# Altium integrated library TI Interface LVDS M-LVDS ECL CML.IntLib: 251 symbols (part 2 of 10)
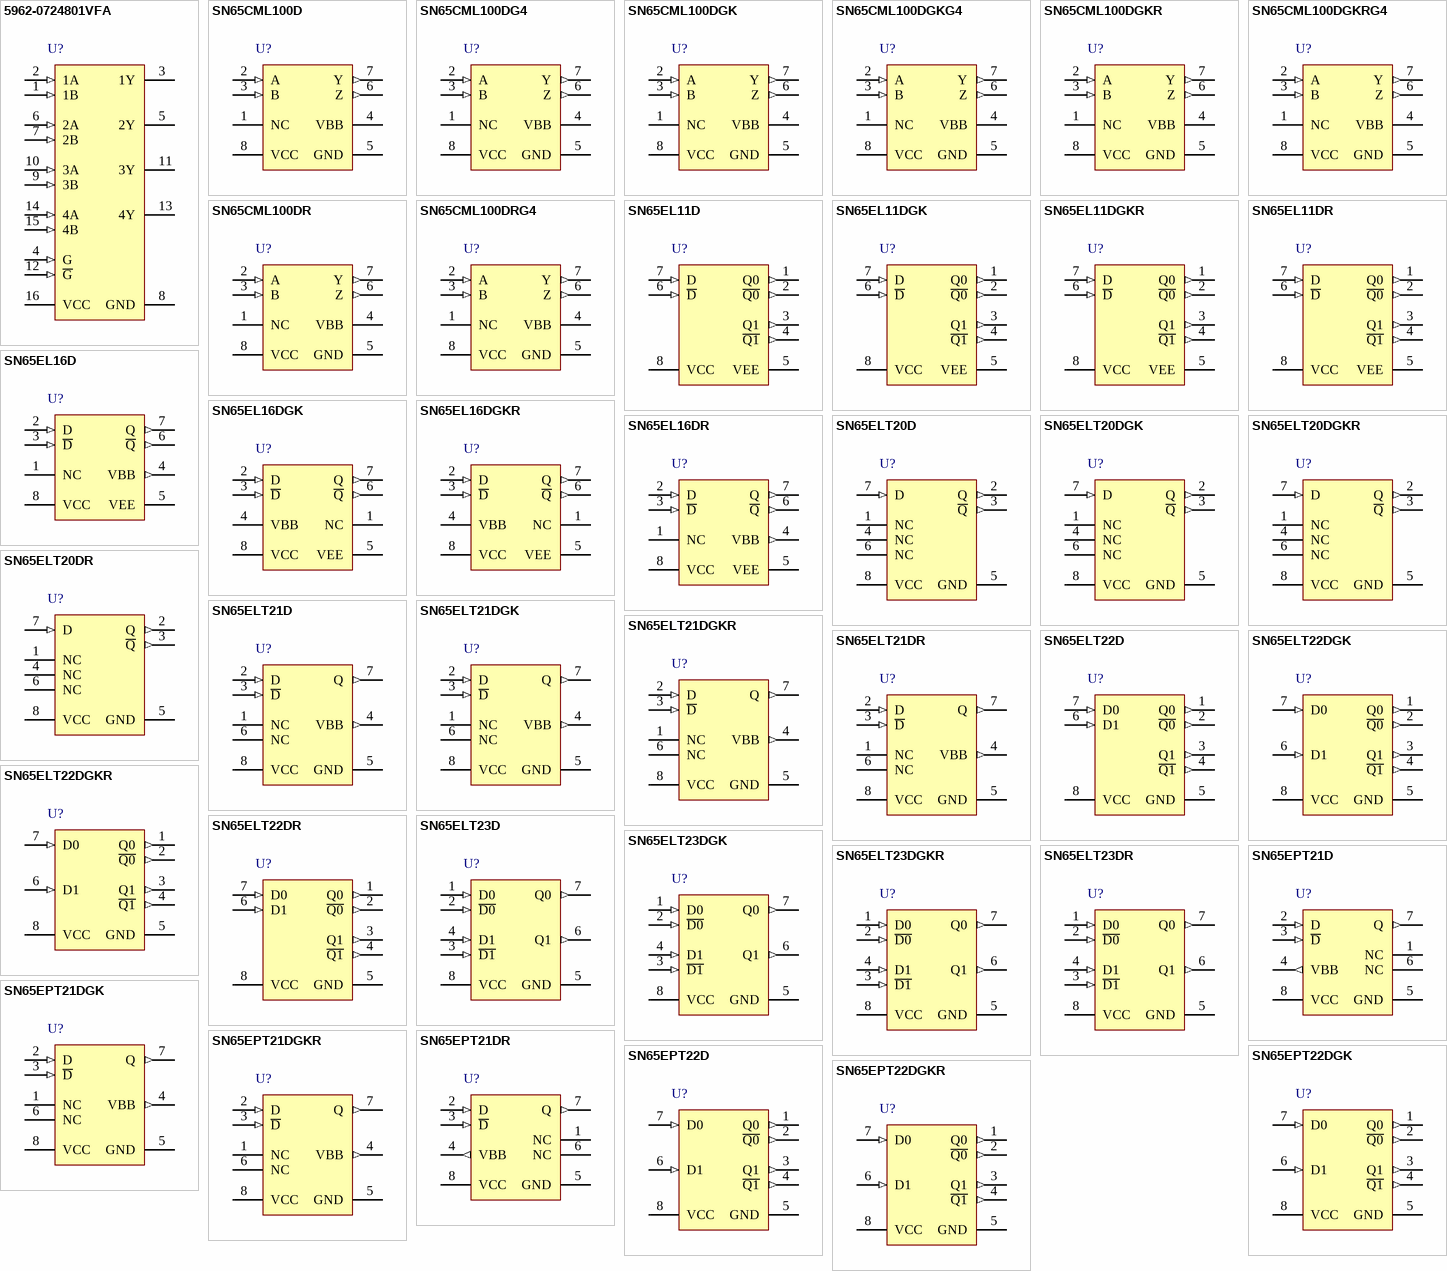
[diagram p10: symbols 5962-0724801VFA to SN65EPT22DGKR]

## SN65ELT23DR
designator U?
500 Mbps 5 V Dual Differential PECL Buffer to TTL Translator, 2 Tx and 2 Rx, -40 to +85 degC, 8-pin SOIC (D), Green (RoHS & no Sb/Br); Manufacturer: Texas Instruments; PartNumber: SN65ELT23DR; ICC(Max)(mA): 25; No. of Rx: 2; Signaling Rate(Mbps): 500; SubFamily: PECL PHY; xECL: TRUE; DatasheetVersion: SLLS925; PackageVersion: revM, Jun-2011; PackageReference: D8; PackageDescription: 8-Pin Plastic Small Outline Integrated Circuit, 4.9 x 3.9 mm, Pitch 1.27 mm Pitch; Supplier 1: Digi-Key; Supplier Part Number 1: SN65ELT23DR-ND; Supplier 2: Mouser; Supplier Part Number 2: 595-SN65ELT23DR; Eco-Plan: Green (RoHS & no Sb/Br); Input Signal: PECL; No. of Tx: 2; Output Signal: TTL; Mounting Technology: Surface Mount; Code_JEDEC: MS-012AA; ComponentLink1Description: Datasheet; ComponentLink1URL: http://www.ti.com/general/docs/lit/getliterature.tsp?genericPartNumber=SN65ELT23&fileType=pdf; ComponentLink2Description: URL Link1; ComponentLink2URL: SamplesURL:http://www.ti.com/product/sn65elt23#samples
footprint D8_N (SOIC, 8-Leads, Body 4.9x3.9mm, Pitch 1.27mm, IPC Medium Density)
footprint D8_L (SOIC, 8-Leads, Body 4.9x3.9mm, Pitch 1.27mm, IPC High Density)
footprint D8_M (SOIC, 8-Leads, Body 4.9x3.9mm, Pitch 1.27mm, IPC Low Density)
pins: 1 D0 (in) "PECL input.", 2 ~{D0} (in) "PECL input.", 3 ~{D1} (in) "PECL input.", 4 D1 (in) "PECL input.", 5 GND (power) "Ground.", 6 Q1 (out) "TTL output.", 7 Q0 (out) "TTL output.", 8 VCC (power) "Positive supply."

## SN65EPT21D
designator U?
600 Mbps 3.3 V ECL Differential Receiver with PECL, LVDS Input and TTL Output, 1 Tx and 1 Rx, -40 to +85 degC, 8-pin SOIC (D), Green (RoHS & no Sb/Br); Manufacturer: Texas Instruments; PartNumber: SN65EPT21D; ICC(Max)(mA): 26; No. of Rx: 1; Signaling Rate(Mbps): 600; SubFamily: PECL PHY; xECL: TRUE; DatasheetVersion: SLLS970; PackageVersion: revF, Jun-2011; PackageReference: RGZ48-4100X4100TP; PackageDescription: 48-Pin Plastic Quad Flatpack No-Lead, 7 x 7 mm Body, 0.5 mm Pitch; Supplier 1: Digi-Key; Supplier Part Number 1: 296-25479-5-ND; Supplier 2: Farnell; Supplier Part Number 2: 1815734; Supplier 3: Newark; Supplier Part Number 3: 23T1188; Supplier 4: Newark; Supplier Part Number 4: 84R4038; Supplier 5: Mouser; Supplier Part Number 5: 595-SN65EPT21D; Eco-Plan: Green (RoHS & no Sb/Br); Input Signal: PECL, LVDS; No. of Tx: 1; Output Signal: TTL; Mounting Technology: Surface Mount; Code_JEDEC: MO-220; ComponentLink1Description: Datasheet; ComponentLink1URL: http://www.ti.com/general/docs/lit/getliterature.tsp?genericPartNumber=SN65EPT21&fileType=pdf; ComponentLink2Description: URL Link1; ComponentLink2URL: SamplesURL:http://www.ti.com/product/sn65ept21#samples
footprint RGZ48-4100X4100TP (QFN, 48-Leads, Body 7x7mm, Pitch 0.5mm, Thermal Pad 5.15x5.15mm, TI Recommended)
pins: 1 NC "No Connect", 2 D (in) "Differential LVPECL/LVDS/CML Input", 3 ~{D} (in) "Differential LVPECL/LVDS/CML Input", 4 VBB (out) "Output Reference Voltage", 5 GND (power) "Ground", 6 NC "No Connect", 7 Q (out) "LVTTL/LVCMOS Output", 8 VCC (power) "Positive Supply"

## SN65EPT21DGK
designator U?
600 Mbps 3.3 V ECL Differential Receiver with PECL, LVDS Input and TTL Output, 1 Tx and 1 Rx, -40 to +85 degC, 8-pin VSSOP (DGK), Green (RoHS & no Sb/Br); Manufacturer: Texas Instruments; PartNumber: SN65EPT21DGK; ICC(Max)(mA): 26; No. of Rx: 1; Signaling Rate(Mbps): 600; SubFamily: PECL PHY; xECL: TRUE; DatasheetVersion: SLLS970; PackageVersion: revE, May-2006; PackageReference: DGK8; PackageDescription: 8-Pin Thin Small Outline Package 3 x 3 mm Body ,0.65 mm Pitch; Supplier 1: Digi-Key; Supplier Part Number 1: 296-27264-5-ND; Supplier 2: Newark; Supplier Part Number 2: 74R6512; Supplier 3: Mouser; Supplier Part Number 3: 595-SN65EPT21DGK; Eco-Plan: Green (RoHS & no Sb/Br); Input Signal: PECL, LVDS; No. of Tx: 1; Output Signal: TTL; Mounting Technology: Surface Mount; Code_JEDEC: MO-187-AA; ComponentLink1Description: Datasheet; ComponentLink1URL: http://www.ti.com/general/docs/lit/getliterature.tsp?genericPartNumber=SN65EPT21&fileType=pdf; ComponentLink2Description: URL Link1; ComponentLink2URL: SamplesURL:http://www.ti.com/product/sn65ept21#samples
footprint DGK8_N (TSOP, 8-Leads, Body 3x3mm, Pitch 0.65mm, IPC Medium Density)
footprint DGK8_L (TSOP, 8-Leads, Body 3x3mm, Pitch 0.65mm, IPC High Density)
footprint DGK8_M (TSOP, 8-Leads, Body 3x3mm, Pitch 0.65mm, IPC Low Density)
pins: 1 NC "No Connect", 2 D (in) "Differential LVPECL/LVDS/CML Input", 3 ~{D} (in) "Differential LVPECL/LVDS/CML Input", 4 VBB (out) "Output Reference Voltage", 5 GND (power) "Ground", 6 NC "No Connect", 7 Q (out) "LVTTL/LVCMOS Output", 8 VCC (power) "Positive Supply"

## SN65EPT21DGKR
designator U?
600 Mbps 3.3 V ECL Differential Receiver with PECL, LVDS Input and TTL Output, 1 Tx and 1 Rx, -40 to +85 degC, 8-pin VSSOP (DGK), Green (RoHS & no Sb/Br); Manufacturer: Texas Instruments; PartNumber: SN65EPT21DGKR; ICC(Max)(mA): 26; No. of Rx: 1; Signaling Rate(Mbps): 600; SubFamily: PECL PHY; xECL: TRUE; DatasheetVersion: SLLS970; PackageVersion: revE, May-2006; PackageReference: DGK8; PackageDescription: 8-Pin Thin Small Outline Package 3 x 3 mm Body ,0.65 mm Pitch; Supplier 1: Digi-Key; Supplier Part Number 1: SN65EPT21DGKR-ND; Supplier 2: Newark; Supplier Part Number 2: 74R6513; Supplier 3: Mouser; Supplier Part Number 3: 595-SN65EPT21DGKR; Eco-Plan: Green (RoHS & no Sb/Br); Input Signal: PECL, LVDS; No. of Tx: 1; Output Signal: TTL; Mounting Technology: Surface Mount; Code_JEDEC: MO-187-AA; ComponentLink1Description: Datasheet; ComponentLink1URL: http://www.ti.com/general/docs/lit/getliterature.tsp?genericPartNumber=SN65EPT21&fileType=pdf; ComponentLink2Description: URL Link1; ComponentLink2URL: SamplesURL:http://www.ti.com/product/sn65ept21#samples
footprint DGK8_N (TSOP, 8-Leads, Body 3x3mm, Pitch 0.65mm, IPC Medium Density)
footprint DGK8_L (TSOP, 8-Leads, Body 3x3mm, Pitch 0.65mm, IPC High Density)
footprint DGK8_M (TSOP, 8-Leads, Body 3x3mm, Pitch 0.65mm, IPC Low Density)
pins: 1 NC "No Connect", 2 D (in) "Differential LVPECL/LVDS/CML Input", 3 ~{D} (in) "Differential LVPECL/LVDS/CML Input", 4 VBB (out) "Output Reference Voltage", 5 GND (power) "Ground", 6 NC "No Connect", 7 Q (out) "LVTTL/LVCMOS Output", 8 VCC (power) "Positive Supply"

## SN65EPT21DR
designator U?
600 Mbps 3.3 V ECL Differential Receiver with PECL, LVDS Input and TTL Output, 1 Tx and 1 Rx, -40 to +85 degC, 8-pin SOIC (D), Green (RoHS & no Sb/Br); Manufacturer: Texas Instruments; PartNumber: SN65EPT21DR; ICC(Max)(mA): 26; No. of Rx: 1; Signaling Rate(Mbps): 600; SubFamily: PECL PHY; xECL: TRUE; DatasheetVersion: SLLS970; PackageVersion: revE, May-2006; PackageReference: DGK8; PackageDescription: 8-Pin Thin Small Outline Package 3 x 3 mm Body ,0.65 mm Pitch; Supplier 1: Digi-Key; Supplier Part Number 1: 296-25482-2-ND; Supplier 2: Digi-Key; Supplier Part Number 2: 296-25482-1-ND; Supplier 3: Digi-Key; Supplier Part Number 3: 296-25482-6-ND; Supplier 4: Newark; Supplier Part Number 4: 64R0584; Supplier 5: Mouser; Supplier Part Number 5: 595-SN65EPT21DR; Eco-Plan: Green (RoHS & no Sb/Br); Input Signal: PECL, LVDS; No. of Tx: 1; Output Signal: TTL; Mounting Technology: Surface Mount; Code_JEDEC: MO-187-AA; ComponentLink1Description: Datasheet; ComponentLink1URL: http://www.ti.com/general/docs/lit/getliterature.tsp?genericPartNumber=SN65EPT21&fileType=pdf; ComponentLink2Description: URL Link1; ComponentLink2URL: SamplesURL:http://www.ti.com/product/sn65ept21#samples
footprint DGK8_N (TSOP, 8-Leads, Body 3x3mm, Pitch 0.65mm, IPC Medium Density)
footprint DGK8_L (TSOP, 8-Leads, Body 3x3mm, Pitch 0.65mm, IPC High Density)
footprint DGK8_M (TSOP, 8-Leads, Body 3x3mm, Pitch 0.65mm, IPC Low Density)
pins: 1 NC "No Connect", 2 D (in) "Differential LVPECL/LVDS/CML Input", 3 ~{D} (in) "Differential LVPECL/LVDS/CML Input", 4 VBB (out) "Output Reference Voltage", 5 GND (power) "Ground", 6 NC "No Connect", 7 Q (out) "LVTTL/LVCMOS Output", 8 VCC (power) "Positive Supply"

## SN65EPT22D
designator U?
4000 Mbps 3.3 V Dual LVTTL / LVCMOS to Differential LVPECL Buffer, 2 Tx and 2 Rx, -40 to +85 degC, 8-pin SOIC (D), Green (RoHS & no Sb/Br); Manufacturer: Texas Instruments; PartNumber: SN65EPT22D; ICC(Max)(mA): 50; Input Signal: LVTTL, CMOS; No. of Rx: 2; Signaling Rate(Mbps): 4000; SubFamily: PECL PHY; xECL: TRUE; DatasheetVersion: SLLS926A; PackageVersion: revM, Jun-2011; PackageReference: D8; PackageDescription: 8-Pin Plastic Small Outline Integrated Circuit, 4.9 x 3.9 mm, Pitch 1.27 mm Pitch; Supplier 1: Digi-Key; Supplier Part Number 1: 296-24067-5-ND; Supplier 2: Newark; Supplier Part Number 2: 45P8157; Supplier 3: Mouser; Supplier Part Number 3: 595-SN65EPT22D; Eco-Plan: Green (RoHS & no Sb/Br); No. of Tx: 2; Output Signal: LVPECL; Mounting Technology: Surface Mount; Code_JEDEC: MS-012AA; ComponentLink1Description: Datasheet; ComponentLink1URL: http://www.ti.com/general/docs/lit/getliterature.tsp?genericPartNumber=SN65EPT22&fileType=pdf; ComponentLink2Description: URL Link1; ComponentLink2URL: SamplesURL:http://www.ti.com/product/sn65ept22#samples
footprint D8_N (SOIC, 8-Leads, Body 4.9x3.9mm, Pitch 1.27mm, IPC Medium Density)
footprint D8_L (SOIC, 8-Leads, Body 4.9x3.9mm, Pitch 1.27mm, IPC High Density)
footprint D8_M (SOIC, 8-Leads, Body 4.9x3.9mm, Pitch 1.27mm, IPC Low Density)
pins: 1 Q0 (out) "LVPECL outputs", 2 ~{Q0} (out) "LVPECL outputs", 3 Q1 (out) "LVPECL outputs", 4 ~{Q1} (out) "LVPECL outputs", 5 GND (power) "Ground", 6 D1 (in) "LVTTL data inputs", 7 D0 (in) "LVTTL data inputs", 8 VCC (power) "Positive supply"

## SN65EPT22DGK
designator U?
4000 Mbps 3.3 V Dual LVTTL / LVCMOS to Differential LVPECL Buffer, 2 Tx and 2 Rx, -40 to +85 degC, 8-pin VSSOP (DGK), Green (RoHS & no Sb/Br); Manufacturer: Texas Instruments; PartNumber: SN65EPT22DGK; ICC(Max)(mA): 50; Input Signal: LVTTL, CMOS; No. of Rx: 2; Signaling Rate(Mbps): 4000; SubFamily: PECL PHY; xECL: TRUE; DatasheetVersion: SLLS926A; PackageVersion: revE, May-2006; PackageReference: DGK8; PackageDescription: 8-Pin Thin Small Outline Package 3 x 3 mm Body ,0.65 mm Pitch; Supplier 1: Digi-Key; Supplier Part Number 1: 296-24086-5-ND; Supplier 2: Newark; Supplier Part Number 2: 45P8158; Supplier 3: Mouser; Supplier Part Number 3: 595-SN65EPT22DGK; Eco-Plan: Green (RoHS & no Sb/Br); No. of Tx: 2; Output Signal: LVPECL; Mounting Technology: Surface Mount; Code_JEDEC: MO-187-AA; ComponentLink1Description: Datasheet; ComponentLink1URL: http://www.ti.com/general/docs/lit/getliterature.tsp?genericPartNumber=SN65EPT22&fileType=pdf; ComponentLink2Description: URL Link1; ComponentLink2URL: SamplesURL:http://www.ti.com/product/sn65ept22#samples
footprint DGK8_N (TSOP, 8-Leads, Body 3x3mm, Pitch 0.65mm, IPC Medium Density)
footprint DGK8_L (TSOP, 8-Leads, Body 3x3mm, Pitch 0.65mm, IPC High Density)
footprint DGK8_M (TSOP, 8-Leads, Body 3x3mm, Pitch 0.65mm, IPC Low Density)
pins: 1 Q0 (out) "LVPECL outputs", 2 ~{Q0} (out) "LVPECL outputs", 3 Q1 (out) "LVPECL outputs", 4 ~{Q1} (out) "LVPECL outputs", 5 GND (power) "Ground", 6 D1 (in) "LVTTL data inputs", 7 D0 (in) "LVTTL data inputs", 8 VCC (power) "Positive supply"

## SN65EPT22DGKR
designator U?
4000 Mbps 3.3 V Dual LVTTL / LVCMOS to Differential LVPECL Buffer, 2 Tx and 2 Rx, -40 to +85 degC, 8-pin VSSOP (DGK), Green (RoHS & no Sb/Br); Manufacturer: Texas Instruments; PartNumber: SN65EPT22DGKR; ICC(Max)(mA): 50; Input Signal: LVTTL, CMOS; No. of Rx: 2; Signaling Rate(Mbps): 4000; SubFamily: PECL PHY; xECL: TRUE; DatasheetVersion: SLLS926A; PackageVersion: revE, May-2006; PackageReference: DGK8; PackageDescription: 8-Pin Thin Small Outline Package 3 x 3 mm Body ,0.65 mm Pitch; Supplier 1: Digi-Key; Supplier Part Number 1: SN65EPT22DGKR-ND; Supplier 2: Newark; Supplier Part Number 2: 45P8159; Supplier 3: Mouser; Supplier Part Number 3: 595-SN65EPT22DGKR; Eco-Plan: Green (RoHS & no Sb/Br); No. of Tx: 2; Output Signal: LVPECL; Mounting Technology: Surface Mount; Code_JEDEC: MO-187-AA; ComponentLink1Description: Datasheet; ComponentLink1URL: http://www.ti.com/general/docs/lit/getliterature.tsp?genericPartNumber=SN65EPT22&fileType=pdf; ComponentLink2Description: URL Link1; ComponentLink2URL: SamplesURL:http://www.ti.com/product/sn65ept22#samples
footprint DGK8_N (TSOP, 8-Leads, Body 3x3mm, Pitch 0.65mm, IPC Medium Density)
footprint DGK8_L (TSOP, 8-Leads, Body 3x3mm, Pitch 0.65mm, IPC High Density)
footprint DGK8_M (TSOP, 8-Leads, Body 3x3mm, Pitch 0.65mm, IPC Low Density)
pins: 1 Q0 (out) "LVPECL outputs", 2 ~{Q0} (out) "LVPECL outputs", 3 Q1 (out) "LVPECL outputs", 4 ~{Q1} (out) "LVPECL outputs", 5 GND (power) "Ground", 6 D1 (in) "LVTTL data inputs", 7 D0 (in) "LVTTL data inputs", 8 VCC (power) "Positive supply"

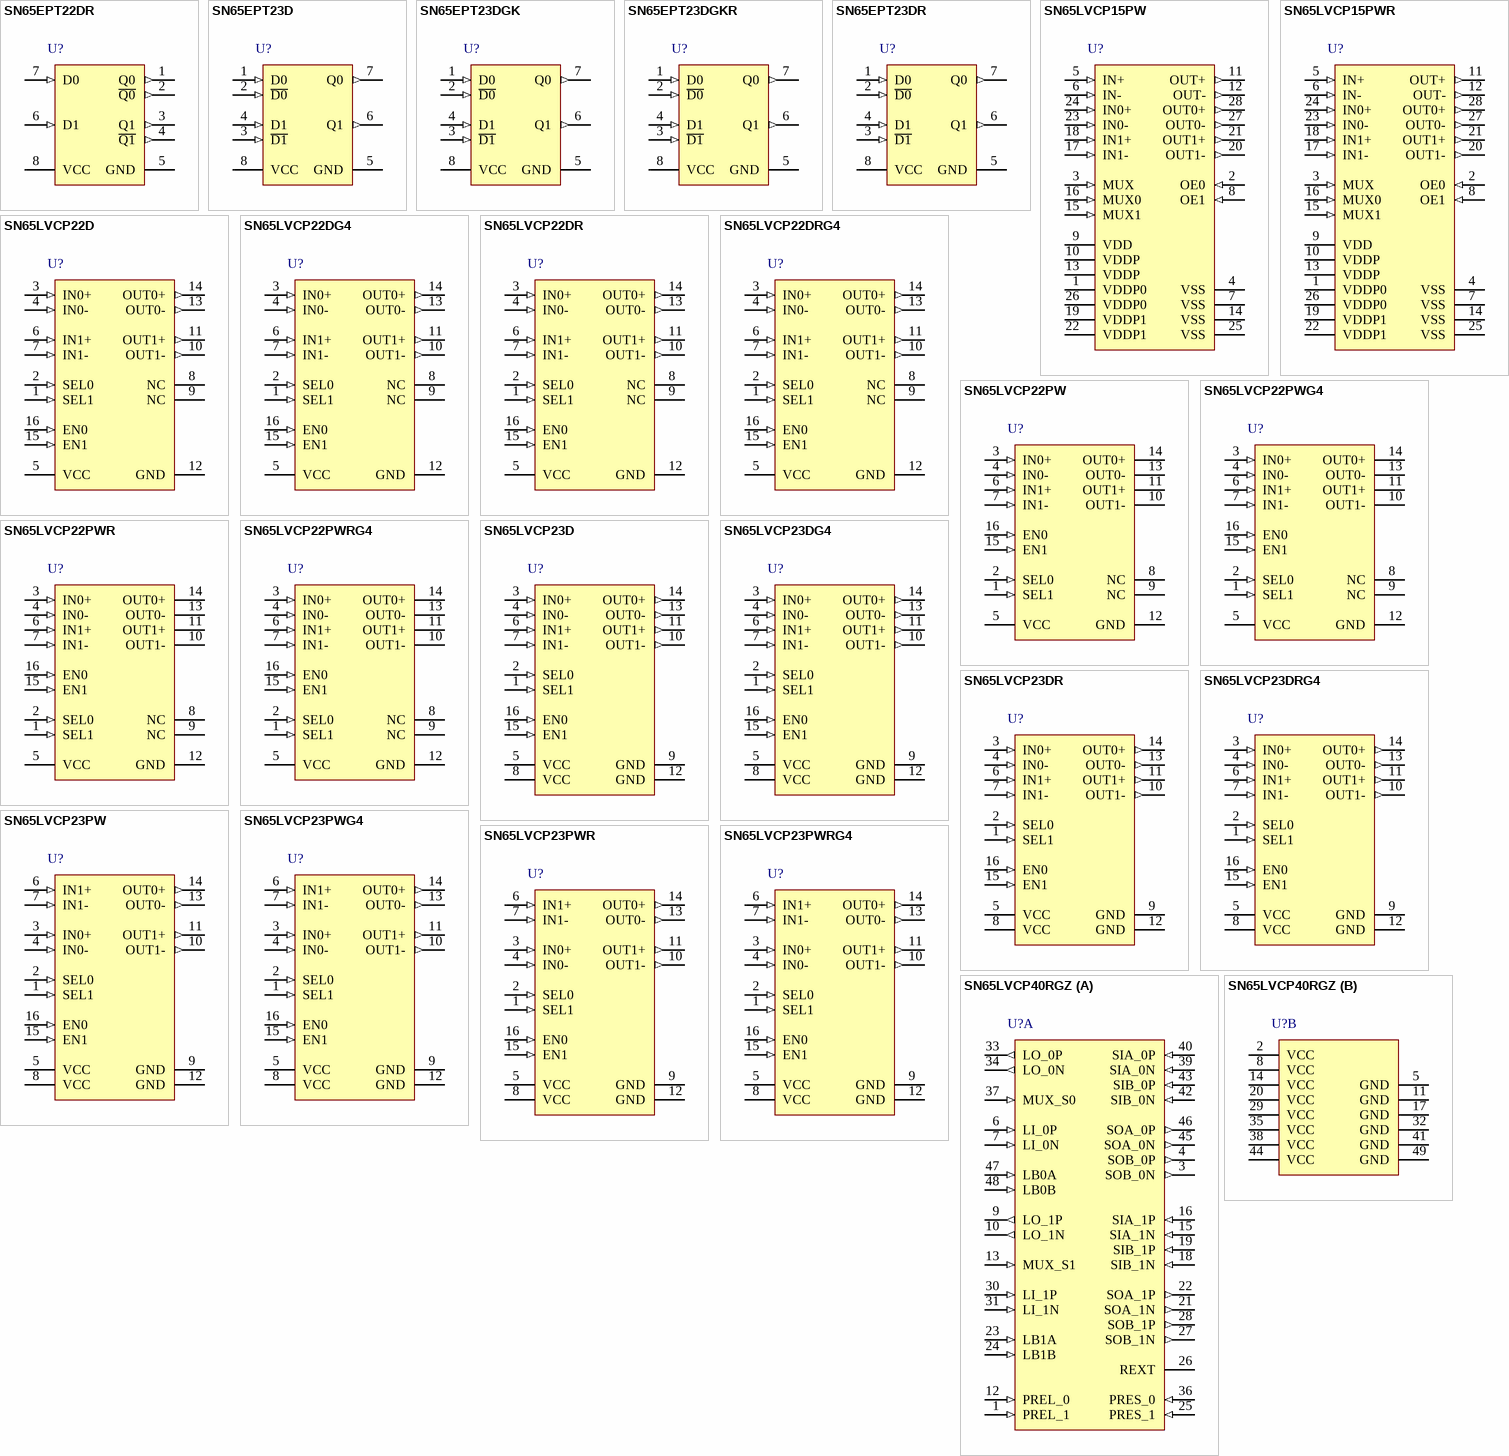
[diagram p1: symbols SN65EPT22DR to SN65LVCP40RGZ]

## SN65EPT22DR
designator U?
4000 Mbps 3.3 V Dual LVTTL / LVCMOS to Differential LVPECL Buffer, 2 Tx and 2 Rx, -40 to +85 degC, 8-pin SOIC (D), Green (RoHS & no Sb/Br); Manufacturer: Texas Instruments; PartNumber: SN65EPT22DR; ICC(Max)(mA): 50; Input Signal: LVTTL, CMOS; No. of Rx: 2; Signaling Rate(Mbps): 4000; SubFamily: PECL PHY; xECL: TRUE; DatasheetVersion: SLLS926A; PackageVersion: revM, Jun-2011; PackageReference: D8; PackageDescription: 8-Pin Plastic Small Outline Integrated Circuit, 4.9 x 3.9 mm, Pitch 1.27 mm Pitch; Supplier 1: Digi-Key; Supplier Part Number 1: SN65EPT22DR-ND; Supplier 2: Newark; Supplier Part Number 2: 45P8160; Supplier 3: Mouser; Supplier Part Number 3: 595-SN65EPT22DR; Eco-Plan: Green (RoHS & no Sb/Br); No. of Tx: 2; Output Signal: LVPECL; Mounting Technology: Surface Mount; Code_JEDEC: MS-012AA; ComponentLink1Description: Datasheet; ComponentLink1URL: http://www.ti.com/general/docs/lit/getliterature.tsp?genericPartNumber=SN65EPT22&fileType=pdf; ComponentLink2Description: URL Link1; ComponentLink2URL: SamplesURL:http://www.ti.com/product/sn65ept22#samples
footprint D8_N (SOIC, 8-Leads, Body 4.9x3.9mm, Pitch 1.27mm, IPC Medium Density)
footprint D8_L (SOIC, 8-Leads, Body 4.9x3.9mm, Pitch 1.27mm, IPC High Density)
footprint D8_M (SOIC, 8-Leads, Body 4.9x3.9mm, Pitch 1.27mm, IPC Low Density)
pins: 1 Q0 (out) "LVPECL outputs", 2 ~{Q0} (out) "LVPECL outputs", 3 Q1 (out) "LVPECL outputs", 4 ~{Q1} (out) "LVPECL outputs", 5 GND (power) "Ground", 6 D1 (in) "LVTTL data inputs", 7 D0 (in) "LVTTL data inputs", 8 VCC (power) "Positive supply"

## SN65EPT23D
designator U?
600 Mbps 3.3 V ECL Differential Receiver with LVPECL, LVDS Input and LVTTL, CMOS Output, 2 Tx and 2 Rx, -40 to +85 degC , 8-pin SOIC (D), Green (RoHS & no Sb/Br); Manufacturer: Texas Instruments; PartNumber: SN65EPT23D; ICC(Max)(mA): 25; No. of Rx: 2; Signaling Rate(Mbps): 600; SubFamily: PECL PHY; xECL: TRUE; DatasheetVersion: SLLS969A; PackageVersion: revE, May-2006; PackageReference: DGK8; PackageDescription: 8-Pin Thin Small Outline Package 3 x 3 mm Body ,0.65 mm Pitch; Supplier 1: Digi-Key; Supplier Part Number 1: 296-25480-5-ND; Supplier 2: Farnell; Supplier Part Number 2: 1815735; Supplier 3: Newark; Supplier Part Number 3: 55R1353; Supplier 4: Mouser; Supplier Part Number 4: 595-SN65EPT23D; Eco-Plan: Green (RoHS & no Sb/Br); Input Signal: LVPECL, LVDS; No. of Tx: 2; Output Signal: LVTTL, CMOS; Mounting Technology: Surface Mount; Code_JEDEC: MO-187-AA; ComponentLink1Description: Datasheet; ComponentLink1URL: http://www.ti.com/general/docs/lit/getliterature.tsp?genericPartNumber=SN65EPT23&fileType=pdf; ComponentLink2Description: URL Link1; ComponentLink2URL: SamplesURL:http://www.ti.com/product/sn65ept23#samples
footprint DGK8_N (TSOP, 8-Leads, Body 3x3mm, Pitch 0.65mm, IPC Medium Density)
footprint DGK8_L (TSOP, 8-Leads, Body 3x3mm, Pitch 0.65mm, IPC High Density)
footprint DGK8_M (TSOP, 8-Leads, Body 3x3mm, Pitch 0.65mm, IPC Low Density)
pins: 1 D0 (in) "Differential LVPECL/LVDS/CML Input", 2 ~{D0} (in) "Differential LVPECL/LVDS/CML Input", 3 ~{D1} (in) "Differential LVPECL/LVDS/CML Input", 4 D1 (in) "Differential LVPECL/LVDS/CML Input", 5 GND (power) "Ground", 6 Q1 (out) "LVTTL/LVCMOS Output", 7 Q0 (out) "LVTTL/LVCMOS Output", 8 VCC (power) "Positive Supply"

## SN65EPT23DGK
designator U?
600 Mbps 3.3 V ECL Differential Receiver with LVPECL, LVDS Input and LVTTL, CMOS Output, 2 Tx and 2 Rx, -40 to +85 degC, 8-pin VSSOP (DGK), Green (RoHS & no Sb/Br); Manufacturer: Texas Instruments; PartNumber: SN65EPT23DGK; ICC(Max)(mA): 25; No. of Rx: 2; Signaling Rate(Mbps): 600; SubFamily: PECL PHY; xECL: TRUE; DatasheetVersion: SLLS969A; PackageVersion: revE, May-2006; PackageReference: DGK8; PackageDescription: 8-Pin Thin Small Outline Package 3 x 3 mm Body ,0.65 mm Pitch; Supplier 1: Digi-Key; Supplier Part Number 1: SN65EPT23DGK-ND; Supplier 2: Newark; Supplier Part Number 2: 74R6514; Supplier 3: Mouser; Supplier Part Number 3: 595-SN65EPT23DGK; Eco-Plan: Green (RoHS & no Sb/Br); Input Signal: LVPECL, LVDS; No. of Tx: 2; Output Signal: LVTTL, CMOS; Mounting Technology: Surface Mount; Code_JEDEC: MO-187-AA; ComponentLink1Description: Datasheet; ComponentLink1URL: http://www.ti.com/general/docs/lit/getliterature.tsp?genericPartNumber=SN65EPT23&fileType=pdf; ComponentLink2Description: URL Link1; ComponentLink2URL: SamplesURL:http://www.ti.com/product/sn65ept23#samples
footprint DGK8_N (TSOP, 8-Leads, Body 3x3mm, Pitch 0.65mm, IPC Medium Density)
footprint DGK8_L (TSOP, 8-Leads, Body 3x3mm, Pitch 0.65mm, IPC High Density)
footprint DGK8_M (TSOP, 8-Leads, Body 3x3mm, Pitch 0.65mm, IPC Low Density)
pins: 1 D0 (in) "Differential LVPECL/LVDS/CML Input", 2 ~{D0} (in) "Differential LVPECL/LVDS/CML Input", 3 ~{D1} (in) "Differential LVPECL/LVDS/CML Input", 4 D1 (in) "Differential LVPECL/LVDS/CML Input", 5 GND (power) "Ground", 6 Q1 (out) "LVTTL/LVCMOS Output", 7 Q0 (out) "LVTTL/LVCMOS Output", 8 VCC (power) "Positive Supply"

## SN65EPT23DGKR
designator U?
600 Mbps 3.3 V ECL Differential Receiver with LVPECL, LVDS Input and LVTTL, CMOS Output, 2 Tx and 2 Rx, -40 to +85 degC, 8-pin VSSOP (DGK), Green (RoHS & no Sb/Br); Manufacturer: Texas Instruments; PartNumber: SN65EPT23DGKR; ICC(Max)(mA): 25; No. of Rx: 2; Signaling Rate(Mbps): 600; SubFamily: PECL PHY; xECL: TRUE; DatasheetVersion: SLLS969A; PackageVersion: revE, May-2006; PackageReference: DGK8; PackageDescription: 8-Pin Thin Small Outline Package 3 x 3 mm Body ,0.65 mm Pitch; Supplier 1: Digi-Key; Supplier Part Number 1: 296-27265-2-ND; Supplier 2: Digi-Key; Supplier Part Number 2: 296-27265-1-ND; Supplier 3: Digi-Key; Supplier Part Number 3: 296-27265-6-ND; Supplier 4: Newark; Supplier Part Number 4: 74R6515; Supplier 5: Mouser; Supplier Part Number 5: 595-SN65EPT23DGKR; Eco-Plan: Green (RoHS & no Sb/Br); Input Signal: LVPECL, LVDS; No. of Tx: 2; Output Signal: LVTTL, CMOS; Mounting Technology: Surface Mount; Code_JEDEC: MO-187-AA; ComponentLink1Description: Datasheet; ComponentLink1URL: http://www.ti.com/general/docs/lit/getliterature.tsp?genericPartNumber=SN65EPT23&fileType=pdf; ComponentLink2Description: URL Link1; ComponentLink2URL: SamplesURL:http://www.ti.com/product/sn65ept23#samples
footprint DGK8_N (TSOP, 8-Leads, Body 3x3mm, Pitch 0.65mm, IPC Medium Density)
footprint DGK8_L (TSOP, 8-Leads, Body 3x3mm, Pitch 0.65mm, IPC High Density)
footprint DGK8_M (TSOP, 8-Leads, Body 3x3mm, Pitch 0.65mm, IPC Low Density)
pins: 1 D0 (in) "Differential LVPECL/LVDS/CML Input", 2 ~{D0} (in) "Differential LVPECL/LVDS/CML Input", 3 ~{D1} (in) "Differential LVPECL/LVDS/CML Input", 4 D1 (in) "Differential LVPECL/LVDS/CML Input", 5 GND (power) "Ground", 6 Q1 (out) "LVTTL/LVCMOS Output", 7 Q0 (out) "LVTTL/LVCMOS Output", 8 VCC (power) "Positive Supply"

## SN65EPT23DR
designator U?
600 Mbps 3.3 V ECL Differential Receiver with LVPECL, LVDS Input and LVTTL, CMOS Output, 2 Tx and 2 Rx, -40 to +85 degC, 8-pin SOIC (D), Green (RoHS & no Sb/Br); Manufacturer: Texas Instruments; PartNumber: SN65EPT23DR; ICC(Max)(mA): 25; No. of Rx: 2; Signaling Rate(Mbps): 600; SubFamily: PECL PHY; xECL: TRUE; DatasheetVersion: SLLS969A; PackageVersion: revE, May-2006; PackageReference: DGK8; PackageDescription: 8-Pin Thin Small Outline Package 3 x 3 mm Body ,0.65 mm Pitch; Supplier 1: Digi-Key; Supplier Part Number 1: 296-25483-2-ND; Supplier 2: Digi-Key; Supplier Part Number 2: 296-25483-1-ND; Supplier 3: Digi-Key; Supplier Part Number 3: 296-25483-6-ND; Supplier 4: Newark; Supplier Part Number 4: 64R0585; Supplier 5: Mouser; Supplier Part Number 5: 595-SN65EPT23DR; Eco-Plan: Green (RoHS & no Sb/Br); Input Signal: LVPECL, LVDS; No. of Tx: 2; Output Signal: LVTTL, CMOS; Mounting Technology: Surface Mount; Code_JEDEC: MO-187-AA; ComponentLink1Description: Datasheet; ComponentLink1URL: http://www.ti.com/general/docs/lit/getliterature.tsp?genericPartNumber=SN65EPT23&fileType=pdf; ComponentLink2Description: URL Link1; ComponentLink2URL: SamplesURL:http://www.ti.com/product/sn65ept23#samples
footprint DGK8_N (TSOP, 8-Leads, Body 3x3mm, Pitch 0.65mm, IPC Medium Density)
footprint DGK8_L (TSOP, 8-Leads, Body 3x3mm, Pitch 0.65mm, IPC High Density)
footprint DGK8_M (TSOP, 8-Leads, Body 3x3mm, Pitch 0.65mm, IPC Low Density)
pins: 1 D0 (in) "Differential LVPECL/LVDS/CML Input", 2 ~{D0} (in) "Differential LVPECL/LVDS/CML Input", 3 ~{D1} (in) "Differential LVPECL/LVDS/CML Input", 4 D1 (in) "Differential LVPECL/LVDS/CML Input", 5 GND (power) "Ground", 6 Q1 (out) "LVTTL/LVCMOS Output", 7 Q0 (out) "LVTTL/LVCMOS Output", 8 VCC (power) "Positive Supply"

## SN65LVCP15PW
designator U?
1500 Mbps Link Replicator for Fibre Channel, Gigabit Ethernet HDTV and SATA with AC Coupled, PECL Input and AC Coupled, PECL Output, 3 Tx and 3 Rx, 0 to +85 degC, 28-pin TSSOP (PW), Green (RoHS & no Sb/Br); Manufacturer: Texas Instruments; PartNumber: SN65LVCP15PW; ESD HBM(kV): 2; Function: Crosspoint; ICC(Max)(mA): 130; No. of Rx: 3; Peak-to-Peak Jitter(Max)(ps): 45; Signaling Rate(Mbps): 1500; SubFamily: Crosspoint-Switch (>1Gbps); DatasheetVersion: SLLS875A; PackageVersion: revG, Feb-2011; PackageReference: PW28; PackageDescription: 28-Pin Plastic Thin Small Outline Package 9.7 x 4.4 mm Body ,0.65 mm Pitch; Supplier 1: Digi-Key; Supplier Part Number 1: 296-33589-5-ND; Supplier 2: Farnell; Supplier Part Number 2: 1689656; Supplier 3: Newark; Supplier Part Number 3: 33P9826; Supplier 4: Mouser; Supplier Part Number 4: 595-SN65LVCP15PW; Eco-Plan: Green (RoHS & no Sb/Br); Input Signal: AC coupled, PECL; No. of Tx: 3; Output Signal: AC coupled, PECL; Mounting Technology: Surface Mount; Code_JEDEC: MO-153; ComponentLink1Description: Datasheet; ComponentLink1URL: http://www.ti.com/general/docs/lit/getliterature.tsp?genericPartNumber=SN65LVCP15&fileType=pdf; ComponentLink2Description: URL Link1; ComponentLink2URL: SamplesURL:http://www.ti.com/product/sn65lvcp15#samples
footprint PW28_N (TSOP, 28-Leads, Body 9.7x4.4mm, Pitch 0.65mm, IPC Medium Density)
footprint PW28_L (TSOP, 28-Leads, Body 9.7x4.4mm, Pitch 0.65mm, IPC High Density)
footprint PW28_M (TSOP, 28-Leads, Body 9.7x4.4mm, Pitch 0.65mm, IPC Low Density)
pins: 1 VDDP0 (power) "High-speed output power supply:3.3 V supply for PECL drivers. VDDP0 is for OUT0", 2 OE0 (in) "OE0 enables OUT0 when HIGH. when HIGH. When LOW, OUTx is powered down and both OUTx+ and OUTx- float HIGH.", 3 MUX (in) "Determines source of OUT. Selects either IN0 (LOW) or IN1 (HIGH).", 4 VSS (power) "Ground", 5 IN+ (in) "Differential (biased to VDD/2) High-speed serial input", 6 IN- (in) "Differential (biased to VDD/2) High-speed serial input", 7 VSS (power) "Ground", 8 OE1 (in) "OE1 enables OUT1 when HIGH. when HIGH. When LOW, OUTx is powered down and both OUTx+ and OUTx- float HIGH.", 9 VDD (power) "3.3 V power supply for digital logic", 10 VDDP (power) "High-speed output power supply:3.3 V supply for PECL drivers. VDDP is for OUT.", 11 OUT+ (out) "Differential high-speed serial output", 12 OUT- (out) "Differential high-speed serial output", 13 VDDP (power) "High-speed output power supply:3.3 V supply for PECL drivers. VDDP is for OUT.", 14 VSS (power) "Ground", 15 MUX1 (in) "Determines source of OUT1. Selects either IN (HIGH) or IN0 (LOW).", 16 MUX0 (in) "Determines source of OUT0. Selects either IN (LOW) or IN1 (HIGH).", 17 IN1- (in) "Differential (biased to VDD/2) High-speed serial input", 18 IN1+ (in) "Differential (biased to VDD/2) High-speed serial input", 19 VDDP1 (power) "High-speed output power supply:3.3 V supply for PECL drivers. VPP1 is for OUT1.", 20 OUT1- (out) "Differential high-speed serial output", 21 OUT1+ (out) "Differential high-speed serial output", 22 VDDP1 (power) "High-speed output power supply:3.3 V supply for PECL drivers. VPP1 is for OUT1.", 23 IN0- (in) "Differential (biased to VDD/2) High-speed serial input", 24 IN0+ (in) "Differential (biased to VDD/2) High-speed serial input", 25 VSS (power) "Ground", 26 VDDP0 (power) "High-speed output power supply:3.3 V supply for PECL drivers. VDDP0 is for OUT0.", 27 OUT0- (out) "Differential high-speed serial output", 28 OUT0+ (out) "Differential high-speed serial output"

## SN65LVCP15PWR
designator U?
1500 Mbps Link Replicator for Fibre Channel, Gigabit Ethernet HDTV and SATA with AC coupled, PECL Input and Output, 3 Tx and 3 Rx, 0 to +85 degC, 28-pin TSSOP (PW), Green (RoHS & no Sb/Br); Manufacturer: Texas Instruments; PartNumber: SN65LVCP15PWR; ESD HBM(kV): 2; Function: Crosspoint; ICC(Max)(mA): 130; No. of Rx: 3; Peak-to-Peak Jitter(Max)(ps): 45; Signaling Rate(Mbps): 1500; SubFamily: Crosspoint-Switch (>1Gbps); DatasheetVersion: SLLS875A; PackageVersion: revG, Feb-2011; PackageReference: PW28; PackageDescription: 28-Pin Plastic Thin Small Outline Package 9.7 x 4.4 mm Body ,0.65 mm Pitch; Supplier 1: Digi-Key; Supplier Part Number 1: 296-23920-2-ND; Supplier 2: Digi-Key; Supplier Part Number 2: 296-23920-1-ND; Supplier 3: Digi-Key; Supplier Part Number 3: 296-23920-6-ND; Supplier 4: Newark; Supplier Part Number 4: 34P6333; Supplier 5: Mouser; Supplier Part Number 5: 595-SN65LVCP15PWR; Eco-Plan: Green (RoHS & no Sb/Br); Input Signal: AC coupled, PECL; No. of Tx: 3; Output Signal: AC coupled, PECL; Mounting Technology: Surface Mount; Code_JEDEC: MO-153; ComponentLink1Description: Datasheet; ComponentLink1URL: http://www.ti.com/general/docs/lit/getliterature.tsp?genericPartNumber=SN65LVCP15&fileType=pdf; ComponentLink2Description: URL Link1; ComponentLink2URL: SamplesURL:http://www.ti.com/product/sn65lvcp15#samples
footprint PW28_N (TSOP, 28-Leads, Body 9.7x4.4mm, Pitch 0.65mm, IPC Medium Density)
footprint PW28_L (TSOP, 28-Leads, Body 9.7x4.4mm, Pitch 0.65mm, IPC High Density)
footprint PW28_M (TSOP, 28-Leads, Body 9.7x4.4mm, Pitch 0.65mm, IPC Low Density)
pins: 1 VDDP0 (power) "High-speed output power supply:3.3 V supply for PECL drivers. VDDP0 is for OUT0", 2 OE0 (in) "OE0 enables OUT0 when HIGH. when HIGH. When LOW, OUTx is powered down and both OUTx+ and OUTx- float HIGH.", 3 MUX (in) "Determines source of OUT. Selects either IN0 (LOW) or IN1 (HIGH).", 4 VSS (power) "Ground", 5 IN+ (in) "Differential (biased to VDD/2) High-speed serial input", 6 IN- (in) "Differential (biased to VDD/2) High-speed serial input", 7 VSS (power) "Ground", 8 OE1 (in) "OE1 enables OUT1 when HIGH. when HIGH. When LOW, OUTx is powered down and both OUTx+ and OUTx- float HIGH.", 9 VDD (power) "3.3 V power supply for digital logic", 10 VDDP (power) "High-speed output power supply:3.3 V supply for PECL drivers. VDDP is for OUT.", 11 OUT+ (out) "Differential high-speed serial output", 12 OUT- (out) "Differential high-speed serial output", 13 VDDP (power) "High-speed output power supply:3.3 V supply for PECL drivers. VDDP is for OUT.", 14 VSS (power) "Ground", 15 MUX1 (in) "Determines source of OUT1. Selects either IN (HIGH) or IN0 (LOW).", 16 MUX0 (in) "Determines source of OUT0. Selects either IN (LOW) or IN1 (HIGH).", 17 IN1- (in) "Differential (biased to VDD/2) High-speed serial input", 18 IN1+ (in) "Differential (biased to VDD/2) High-speed serial input", 19 VDDP1 (power) "High-speed output power supply:3.3 V supply for PECL drivers. VPP1 is for OUT1.", 20 OUT1- (out) "Differential high-speed serial output", 21 OUT1+ (out) "Differential high-speed serial output", 22 VDDP1 (power) "High-speed output power supply:3.3 V supply for PECL drivers. VPP1 is for OUT1.", 23 IN0- (in) "Differential (biased to VDD/2) High-speed serial input", 24 IN0+ (in) "Differential (biased to VDD/2) High-speed serial input", 25 VSS (power) "Ground", 26 VDDP0 (power) "High-speed output power supply:3.3 V supply for PECL drivers. VDDP0 is for OUT0.", 27 OUT0- (out) "Differential high-speed serial output", 28 OUT0+ (out) "Differential high-speed serial output"

## SN65LVCP22D
designator U?
1000 Mbps 2 x 2 Crosspoint Switch : LVDS Outputs with CML, LVDS, LVPECL Input, 2 Tx and 2 Rx, -40 to +85 degC, 16-pin SOIC (D), Green (RoHS & no Sb/Br); Part-to-Part Skew(Max)(ps): 100; Manufacturer: Texas Instruments; PartNumber: SN65LVCP22D; Crosspoint-Switch: TRUE; ESD HBM(kV): 5; ICC(Max)(mA): 85; No. of Rx: 2; Peak-to-Peak Jitter(Max)(ps): 105; Signaling Rate(Mbps): 1000; SubFamily: Crosspoint-Switch (>1Gbps); DatasheetVersion: SLLS553B; PackageVersion: revM, Jun-2011; PackageReference: D16; PackageDescription: 16-Pin Plastic Small Outline Integrated Circuit, 9.9 x 3.9 mm, Pitch 1.27 mm Pitch; Eco-Plan: Green (RoHS & no Sb/Br); Function: Crosspoint; Input Signal: CML, LVDS, LVPECL; No. of Tx: 2; Output Signal: LVDS; Mounting Technology: Surface Mount; Code_JEDEC: MS-012AC; ComponentLink1Description: Datasheet; ComponentLink1URL: http://www.ti.com/general/docs/lit/getliterature.tsp?genericPartNumber=SN65LVCP22&fileType=pdf; ComponentLink2Description: URL Link1; ComponentLink2URL: SamplesURL:http://www.ti.com/product/sn65lvcp22#samples
footprint D16_N (SOIC, 16-Leads, Body 9.9x3.9mm, Pitch 1.27mm, IPC Medium Density)
footprint D16_L (SOIC, 16-Leads, Body 9.9x3.9mm, Pitch 1.27mm, IPC High Density)
footprint D16_M (SOIC, 16-Leads, Body 9.9x3.9mm, Pitch 1.27mm, IPC Low Density)
pins: 1 SEL1 (in), 2 SEL0 (in), 3 IN0+ (in), 4 IN0- (in), 5 VCC (power), 6 IN1+ (in), 7 IN1- (in), 8 NC, 9 NC, 10 OUT1- (out), 11 OUT1+ (out), 12 GND (power), 13 OUT0- (out), 14 OUT0+ (out), 15 EN1 (in), 16 EN0 (in)

## SN65LVCP22DG4
designator U?
1000 Mbps 2 x 2 Crosspoint Switch : LVDS Outputs with CML, LVDS, LVPECL Input, 2 Tx and 2 Rx, -40 to +85 degC, 16-pin SOIC (D), Green (RoHS & no Sb/Br); Part-to-Part Skew(Max)(ps): 100; Manufacturer: Texas Instruments; PartNumber: SN65LVCP22DG4; Crosspoint-Switch: TRUE; ESD HBM(kV): 5; ICC(Max)(mA): 85; No. of Rx: 2; Peak-to-Peak Jitter(Max)(ps): 105; Signaling Rate(Mbps): 1000; SubFamily: Crosspoint-Switch (>1Gbps); DatasheetVersion: SLLS553B; PackageVersion: revM, Jun-2011; PackageReference: D16; PackageDescription: 16-Pin Plastic Small Outline Integrated Circuit, 9.9 x 3.9 mm, Pitch 1.27 mm Pitch; Eco-Plan: Green (RoHS & no Sb/Br); Function: Crosspoint; Input Signal: CML, LVDS, LVPECL; No. of Tx: 2; Output Signal: LVDS; Mounting Technology: Surface Mount; Code_JEDEC: MS-012AC; ComponentLink1Description: Datasheet; ComponentLink1URL: http://www.ti.com/general/docs/lit/getliterature.tsp?genericPartNumber=SN65LVCP22&fileType=pdf; ComponentLink2Description: URL Link1; ComponentLink2URL: SamplesURL:http://www.ti.com/product/sn65lvcp22#samples
footprint D16_N (SOIC, 16-Leads, Body 9.9x3.9mm, Pitch 1.27mm, IPC Medium Density)
footprint D16_L (SOIC, 16-Leads, Body 9.9x3.9mm, Pitch 1.27mm, IPC High Density)
footprint D16_M (SOIC, 16-Leads, Body 9.9x3.9mm, Pitch 1.27mm, IPC Low Density)
pins: 1 SEL1 (in), 2 SEL0 (in), 3 IN0+ (in), 4 IN0- (in), 5 VCC (power), 6 IN1+ (in), 7 IN1- (in), 8 NC, 9 NC, 10 OUT1- (out), 11 OUT1+ (out), 12 GND (power), 13 OUT0- (out), 14 OUT0+ (out), 15 EN1 (in), 16 EN0 (in)

## SN65LVCP22DR
designator U?
1000 Mbps 2 x 2 Crosspoint Switch : LVDS Outputs with CML, LVDS, LVPECL Input, 2 Tx and 2 Rx, -40 to +85 degC, 16-pin SOIC (D), Green (RoHS & no Sb/Br); Part-to-Part Skew(Max)(ps): 100; Manufacturer: Texas Instruments; PartNumber: SN65LVCP22DR; Crosspoint-Switch: TRUE; ESD HBM(kV): 5; ICC(Max)(mA): 85; No. of Rx: 2; Peak-to-Peak Jitter(Max)(ps): 105; Signaling Rate(Mbps): 1000; SubFamily: Crosspoint-Switch (>1Gbps); DatasheetVersion: SLLS553B; PackageVersion: revM, Jun-2011; PackageReference: D16; PackageDescription: 16-Pin Plastic Small Outline Integrated Circuit, 9.9 x 3.9 mm, Pitch 1.27 mm Pitch; Eco-Plan: Green (RoHS & no Sb/Br); Function: Crosspoint; Input Signal: CML, LVDS, LVPECL; No. of Tx: 2; Output Signal: LVDS; Mounting Technology: Surface Mount; Code_JEDEC: MS-012AC; ComponentLink1Description: Datasheet; ComponentLink1URL: http://www.ti.com/general/docs/lit/getliterature.tsp?genericPartNumber=SN65LVCP22&fileType=pdf; ComponentLink2Description: URL Link1; ComponentLink2URL: SamplesURL:http://www.ti.com/product/sn65lvcp22#samples
footprint D16_N (SOIC, 16-Leads, Body 9.9x3.9mm, Pitch 1.27mm, IPC Medium Density)
footprint D16_L (SOIC, 16-Leads, Body 9.9x3.9mm, Pitch 1.27mm, IPC High Density)
footprint D16_M (SOIC, 16-Leads, Body 9.9x3.9mm, Pitch 1.27mm, IPC Low Density)
pins: 1 SEL1 (in), 2 SEL0 (in), 3 IN0+ (in), 4 IN0- (in), 5 VCC (power), 6 IN1+ (in), 7 IN1- (in), 8 NC, 9 NC, 10 OUT1- (out), 11 OUT1+ (out), 12 GND (power), 13 OUT0- (out), 14 OUT0+ (out), 15 EN1 (in), 16 EN0 (in)

## SN65LVCP22DRG4
designator U?
1000 Mbps 2 x 2 Crosspoint Switch : LVDS Outputs with CML, LVDS, LVPECL Input, 2 Tx and 2 Rx, -40 to +85 degC, 16-pin SOIC (D), Green (RoHS & no Sb/Br); Part-to-Part Skew(Max)(ps): 100; Manufacturer: Texas Instruments; PartNumber: SN65LVCP22DRG4; Crosspoint-Switch: TRUE; ESD HBM(kV): 5; ICC(Max)(mA): 85; No. of Rx: 2; Peak-to-Peak Jitter(Max)(ps): 105; Signaling Rate(Mbps): 1000; SubFamily: Crosspoint-Switch (>1Gbps); DatasheetVersion: SLLS553B; PackageVersion: revM, Jun-2011; PackageReference: D16; PackageDescription: 16-Pin Plastic Small Outline Integrated Circuit, 9.9 x 3.9 mm, Pitch 1.27 mm Pitch; Eco-Plan: Green (RoHS & no Sb/Br); Function: Crosspoint; Input Signal: CML, LVDS, LVPECL; No. of Tx: 2; Output Signal: LVDS; Mounting Technology: Surface Mount; Code_JEDEC: MS-012AC; ComponentLink1Description: Datasheet; ComponentLink1URL: http://www.ti.com/general/docs/lit/getliterature.tsp?genericPartNumber=SN65LVCP22&fileType=pdf; ComponentLink2Description: URL Link1; ComponentLink2URL: SamplesURL:http://www.ti.com/product/sn65lvcp22#samples
footprint D16_N (SOIC, 16-Leads, Body 9.9x3.9mm, Pitch 1.27mm, IPC Medium Density)
footprint D16_L (SOIC, 16-Leads, Body 9.9x3.9mm, Pitch 1.27mm, IPC High Density)
footprint D16_M (SOIC, 16-Leads, Body 9.9x3.9mm, Pitch 1.27mm, IPC Low Density)
pins: 1 SEL1 (in), 2 SEL0 (in), 3 IN0+ (in), 4 IN0- (in), 5 VCC (power), 6 IN1+ (in), 7 IN1- (in), 8 NC, 9 NC, 10 OUT1- (out), 11 OUT1+ (out), 12 GND (power), 13 OUT0- (out), 14 OUT0+ (out), 15 EN1 (in), 16 EN0 (in)

## SN65LVCP22PW
designator U? 
1000 Mbps 2 x 2 Crosspoint Switch : LVDS Outputs with CML, LVDS, LVPECL Input, 2 Tx and 2 Rx, -40 to +85 degC, 16-pin TSSOP (PW), Green (RoHS & no Sb/Br); Part-to-Part Skew(Max)(ps): 100; Manufacturer: Texas Instruments; PartNumber: SN65LVCP22PW; Crosspoint-Switch: TRUE; ESD HBM(kV): 5; ICC(Max)(mA): 85; No. of Rx: 2; Peak-to-Peak Jitter(Max)(ps): 105; Signaling Rate(Mbps): 1000; SubFamily: Crosspoint-Switch (>1Gbps); DatasheetVersion: SLLS553B; PackageVersion: revG, Feb-2011; PackageReference: PW16; PackageDescription: 16-Pin Plastic Thin Small Outline Package 5 x 4.4 mm Body ,0.65 mm Pitch; Eco-Plan: Green (RoHS & no Sb/Br); Function: Crosspoint; Input Signal: CML, LVDS, LVPECL; No. of Tx: 2; Output Signal: LVDS; Mounting Technology: Surface Mount; Code_JEDEC: MO-153; ComponentLink1Description: Datasheet; ComponentLink1URL: http://www.ti.com/general/docs/lit/getliterature.tsp?genericPartNumber=SN65LVCP22&fileType=pdf; ComponentLink2Description: URL Link1; ComponentLink2URL: SamplesURL:http://www.ti.com/product/sn65lvcp22#samples
footprint PW16_N (TSOP, 16-Leads, Body 5x4.4mm, Pitch 0.65mm, IPC Medium Density)
footprint PW16_L (TSOP, 16-Leads, Body 5x4.4mm, Pitch 0.65mm, IPC High Density)
footprint PW16_M (TSOP, 16-Leads, Body 5x4.4mm, Pitch 0.65mm, IPC Low Density)
pins: 1 SEL1 (in), 2 SEL0 (in), 3 IN0+ (in), 4 IN0- (in), 5 VCC (power), 6 IN1+ (in), 7 IN1- (in), 8 NC, 9 NC, 10 OUT1- (hiz), 11 OUT1+ (hiz), 12 GND (power), 13 OUT0- (hiz), 14 OUT0+ (hiz), 15 EN1 (in), 16 EN0 (in)

## SN65LVCP22PWG4
designator U? 
1000 Mbps 2 x 2 Crosspoint Switch : LVDS Outputs with CML, LVDS, LVPECL Input, 2 Tx and 2 Rx, -40 to +85 degC, 16-pin TSSOP (PW), Green (RoHS & no Sb/Br); Part-to-Part Skew(Max)(ps): 100; Manufacturer: Texas Instruments; PartNumber: SN65LVCP22PWG4; Crosspoint-Switch: TRUE; ESD HBM(kV): 5; ICC(Max)(mA): 85; No. of Rx: 2; Peak-to-Peak Jitter(Max)(ps): 105; Signaling Rate(Mbps): 1000; SubFamily: Crosspoint-Switch (>1Gbps); DatasheetVersion: SLLS553B; PackageVersion: revG, Feb-2011; PackageReference: PW16; PackageDescription: 16-Pin Plastic Thin Small Outline Package 5 x 4.4 mm Body ,0.65 mm Pitch; Eco-Plan: Green (RoHS & no Sb/Br); Function: Crosspoint; Input Signal: CML, LVDS, LVPECL; No. of Tx: 2; Output Signal: LVDS; Mounting Technology: Surface Mount; Code_JEDEC: MO-153; ComponentLink1Description: Datasheet; ComponentLink1URL: http://www.ti.com/general/docs/lit/getliterature.tsp?genericPartNumber=SN65LVCP22&fileType=pdf; ComponentLink2Description: URL Link1; ComponentLink2URL: SamplesURL:http://www.ti.com/product/sn65lvcp22#samples
footprint PW16_N (TSOP, 16-Leads, Body 5x4.4mm, Pitch 0.65mm, IPC Medium Density)
footprint PW16_L (TSOP, 16-Leads, Body 5x4.4mm, Pitch 0.65mm, IPC High Density)
footprint PW16_M (TSOP, 16-Leads, Body 5x4.4mm, Pitch 0.65mm, IPC Low Density)
pins: 1 SEL1 (in), 2 SEL0 (in), 3 IN0+ (in), 4 IN0- (in), 5 VCC (power), 6 IN1+ (in), 7 IN1- (in), 8 NC, 9 NC, 10 OUT1- (hiz), 11 OUT1+ (hiz), 12 GND (power), 13 OUT0- (hiz), 14 OUT0+ (hiz), 15 EN1 (in), 16 EN0 (in)

## SN65LVCP22PWR
designator U? 
1000 Mbps 2 x 2 Crosspoint Switch : LVDS Outputs with CML, LVDS, LVPECL Input, 2 Tx and 2 Rx, -40 to +85 degC, 16-pin TSSOP (PW), Green (RoHS & no Sb/Br); Part-to-Part Skew(Max)(ps): 100; Manufacturer: Texas Instruments; PartNumber: SN65LVCP22PWR; Crosspoint-Switch: TRUE; ESD HBM(kV): 5; ICC(Max)(mA): 85; No. of Rx: 2; Peak-to-Peak Jitter(Max)(ps): 105; Signaling Rate(Mbps): 1000; SubFamily: Crosspoint-Switch (>1Gbps); DatasheetVersion: SLLS553B; PackageVersion: revG, Feb-2011; PackageReference: PW16; PackageDescription: 16-Pin Plastic Thin Small Outline Package 5 x 4.4 mm Body ,0.65 mm Pitch; Eco-Plan: Green (RoHS & no Sb/Br); Function: Crosspoint; Input Signal: CML, LVDS, LVPECL; No. of Tx: 2; Output Signal: LVDS; Mounting Technology: Surface Mount; Code_JEDEC: MO-153; ComponentLink1Description: Datasheet; ComponentLink1URL: http://www.ti.com/general/docs/lit/getliterature.tsp?genericPartNumber=SN65LVCP22&fileType=pdf; ComponentLink2Description: URL Link1; ComponentLink2URL: SamplesURL:http://www.ti.com/product/sn65lvcp22#samples
footprint PW16_N (TSOP, 16-Leads, Body 5x4.4mm, Pitch 0.65mm, IPC Medium Density)
footprint PW16_L (TSOP, 16-Leads, Body 5x4.4mm, Pitch 0.65mm, IPC High Density)
footprint PW16_M (TSOP, 16-Leads, Body 5x4.4mm, Pitch 0.65mm, IPC Low Density)
pins: 1 SEL1 (in), 2 SEL0 (in), 3 IN0+ (in), 4 IN0- (in), 5 VCC (power), 6 IN1+ (in), 7 IN1- (in), 8 NC, 9 NC, 10 OUT1- (hiz), 11 OUT1+ (hiz), 12 GND (power), 13 OUT0- (hiz), 14 OUT0+ (hiz), 15 EN1 (in), 16 EN0 (in)

## SN65LVCP22PWRG4
designator U? 
1000 Mbps 2 x 2 Crosspoint Switch : LVDS Outputs with CML, LVDS, LVPECL Input, 2 Tx and 2 Rx, -40 to +85 degC, 16-pin TSSOP (PW), Green (RoHS & no Sb/Br); Part-to-Part Skew(Max)(ps): 100; Manufacturer: Texas Instruments; PartNumber: SN65LVCP22PWRG4; Crosspoint-Switch: TRUE; ESD HBM(kV): 5; ICC(Max)(mA): 85; No. of Rx: 2; Peak-to-Peak Jitter(Max)(ps): 105; Signaling Rate(Mbps): 1000; SubFamily: Crosspoint-Switch (>1Gbps); DatasheetVersion: SLLS553B; PackageVersion: revG, Feb-2011; PackageReference: PW16; PackageDescription: 16-Pin Plastic Thin Small Outline Package 5 x 4.4 mm Body ,0.65 mm Pitch; Eco-Plan: Green (RoHS & no Sb/Br); Function: Crosspoint; Input Signal: CML, LVDS, LVPECL; No. of Tx: 2; Output Signal: LVDS; Mounting Technology: Surface Mount; Code_JEDEC: MO-153; ComponentLink1Description: Datasheet; ComponentLink1URL: http://www.ti.com/general/docs/lit/getliterature.tsp?genericPartNumber=SN65LVCP22&fileType=pdf; ComponentLink2Description: URL Link1; ComponentLink2URL: SamplesURL:http://www.ti.com/product/sn65lvcp22#samples
footprint PW16_N (TSOP, 16-Leads, Body 5x4.4mm, Pitch 0.65mm, IPC Medium Density)
footprint PW16_L (TSOP, 16-Leads, Body 5x4.4mm, Pitch 0.65mm, IPC High Density)
footprint PW16_M (TSOP, 16-Leads, Body 5x4.4mm, Pitch 0.65mm, IPC Low Density)
pins: 1 SEL1 (in), 2 SEL0 (in), 3 IN0+ (in), 4 IN0- (in), 5 VCC (power), 6 IN1+ (in), 7 IN1- (in), 8 NC, 9 NC, 10 OUT1- (hiz), 11 OUT1+ (hiz), 12 GND (power), 13 OUT0- (hiz), 14 OUT0+ (hiz), 15 EN1 (in), 16 EN0 (in)

## SN65LVCP23D
designator U?
1300 Mbps 2x2 Crosspoint Switch : LVPECL Outputs, 2 Tx and 2 Rx, -40 to +85 degC, 16-pin SOIC (D), Green (RoHS & no Sb/Br); Part-to-Part Skew(Max)(ps): 100; Manufacturer: Texas Instruments; PartNumber: SN65LVCP23D; Crosspoint-Switch: TRUE; ESD HBM(kV): 5; ICC(Max)(mA): 65; Input Signal: CML, LVDS, LVPECL; No. of Rx: 2; Signaling Rate(Mbps): 1300; SubFamily: Crosspoint-Switch (>1Gbps); DatasheetVersion: SLLS554E; PackageVersion: revM, Jun-2011; PackageReference: D16; PackageDescription: 16-Pin Plastic Small Outline Integrated Circuit, 9.9 x 3.9 mm, Pitch 1.27 mm Pitch; Eco-Plan: Green (RoHS & no Sb/Br); Function: Crosspoint; No. of Tx: 2; Output Signal: LVPECL; Peak-to-Peak Jitter(Max)(ps): 100; Mounting Technology: Surface Mount; Code_JEDEC: MS-012AC; ComponentLink1Description: Datasheet; ComponentLink1URL: http://www.ti.com/general/docs/lit/getliterature.tsp?genericPartNumber=SN65LVCP23&fileType=pdf; ComponentLink2Description: URL Link1; ComponentLink2URL: SamplesURL:http://www.ti.com/product/sn65lvcp23#samples
footprint D16_N (SOIC, 16-Leads, Body 9.9x3.9mm, Pitch 1.27mm, IPC Medium Density)
footprint D16_L (SOIC, 16-Leads, Body 9.9x3.9mm, Pitch 1.27mm, IPC High Density)
footprint D16_M (SOIC, 16-Leads, Body 9.9x3.9mm, Pitch 1.27mm, IPC Low Density)
pins: 1 SEL1 (in), 2 SEL0 (in), 3 IN0+ (in), 4 IN0- (in), 5 VCC (power), 6 IN1+ (in), 7 IN1- (in), 8 VCC (power), 9 GND (power), 10 OUT1- (out), 11 OUT1+ (out), 12 GND (power), 13 OUT0- (out), 14 OUT0+ (out), 15 EN1 (in), 16 EN0 (in)

## SN65LVCP23DG4
designator U?
1300 Mbps 2x2 Crosspoint Switch : LVPECL Outputs, 2 Tx and 2 Rx, -40 to +85 degC, 16-pin SOIC (D), Green (RoHS & no Sb/Br); Part-to-Part Skew(Max)(ps): 100; Manufacturer: Texas Instruments; PartNumber: SN65LVCP23DG4; Crosspoint-Switch: TRUE; ESD HBM(kV): 5; ICC(Max)(mA): 65; Input Signal: CML, LVDS, LVPECL; No. of Rx: 2; Signaling Rate(Mbps): 1300; SubFamily: Crosspoint-Switch (>1Gbps); DatasheetVersion: SLLS554E; PackageVersion: revM, Jun-2011; PackageReference: D16; PackageDescription: 16-Pin Plastic Small Outline Integrated Circuit, 9.9 x 3.9 mm, Pitch 1.27 mm Pitch; Eco-Plan: Green (RoHS & no Sb/Br); Function: Crosspoint; No. of Tx: 2; Output Signal: LVPECL; Peak-to-Peak Jitter(Max)(ps): 100; Mounting Technology: Surface Mount; Code_JEDEC: MS-012AC; ComponentLink1Description: Datasheet; ComponentLink1URL: http://www.ti.com/general/docs/lit/getliterature.tsp?genericPartNumber=SN65LVCP23&fileType=pdf; ComponentLink2Description: URL Link1; ComponentLink2URL: SamplesURL:http://www.ti.com/product/sn65lvcp23#samples
footprint D16_N (SOIC, 16-Leads, Body 9.9x3.9mm, Pitch 1.27mm, IPC Medium Density)
footprint D16_L (SOIC, 16-Leads, Body 9.9x3.9mm, Pitch 1.27mm, IPC High Density)
footprint D16_M (SOIC, 16-Leads, Body 9.9x3.9mm, Pitch 1.27mm, IPC Low Density)
pins: 1 SEL1 (in), 2 SEL0 (in), 3 IN0+ (in), 4 IN0- (in), 5 VCC (power), 6 IN1+ (in), 7 IN1- (in), 8 VCC (power), 9 GND (power), 10 OUT1- (out), 11 OUT1+ (out), 12 GND (power), 13 OUT0- (out), 14 OUT0+ (out), 15 EN1 (in), 16 EN0 (in)

## SN65LVCP23DR
designator U?
1300 Mbps 2x2 Crosspoint Switch : LVPECL Outputs with CML, LVDS, LVPECL Input, 2 Tx and 2 Rx, -40 to +85 degC, 16-pin SOIC (D), Green (RoHS & no Sb/Br); Part-to-Part Skew(Max)(ps): 100; Manufacturer: Texas Instruments; PartNumber: SN65LVCP23DR; Crosspoint-Switch: TRUE; ESD HBM(kV): 5; ICC(Max)(mA): 65; No. of Rx: 2; Signaling Rate(Mbps): 1300; SubFamily: Crosspoint-Switch (>1Gbps); DatasheetVersion: SLLS554E; PackageVersion: revM, Jun-2011; PackageReference: D16; PackageDescription: 16-Pin Plastic Small Outline Integrated Circuit, 9.9 x 3.9 mm, Pitch 1.27 mm Pitch; Eco-Plan: Green (RoHS & no Sb/Br); Function: Crosspoint; Input Signal: CML, LVDS, LVPECL; No. of Tx: 2; Output Signal: LVPECL; Peak-to-Peak Jitter(Max)(ps): 100; Mounting Technology: Surface Mount; Code_JEDEC: MS-012AC; ComponentLink1Description: Datasheet; ComponentLink1URL: http://www.ti.com/general/docs/lit/getliterature.tsp?genericPartNumber=SN65LVCP23&fileType=pdf; ComponentLink2Description: URL Link1; ComponentLink2URL: SamplesURL:http://www.ti.com/product/sn65lvcp23#samples
footprint D16_N (SOIC, 16-Leads, Body 9.9x3.9mm, Pitch 1.27mm, IPC Medium Density)
footprint D16_L (SOIC, 16-Leads, Body 9.9x3.9mm, Pitch 1.27mm, IPC High Density)
footprint D16_M (SOIC, 16-Leads, Body 9.9x3.9mm, Pitch 1.27mm, IPC Low Density)
pins: 1 SEL1 (in), 2 SEL0 (in), 3 IN0+ (in), 4 IN0- (in), 5 VCC (power), 6 IN1+ (in), 7 IN1- (in), 8 VCC (power), 9 GND (power), 10 OUT1- (out), 11 OUT1+ (out), 12 GND (power), 13 OUT0- (out), 14 OUT0+ (out), 15 EN1 (in), 16 EN0 (in)

## SN65LVCP23DRG4
designator U?
1300 Mbps 2x2 Crosspoint Switch : LVPECL Outputs with CML, LVDS, LVPECL Input, 2 Tx and 2 Rx, -40 to +85 degC, 16-pin SOIC (D), Green (RoHS & no Sb/Br); Part-to-Part Skew(Max)(ps): 100; Manufacturer: Texas Instruments; PartNumber: SN65LVCP23DRG4; Crosspoint-Switch: TRUE; ESD HBM(kV): 5; ICC(Max)(mA): 65; No. of Rx: 2; Signaling Rate(Mbps): 1300; SubFamily: Crosspoint-Switch (>1Gbps); DatasheetVersion: SLLS554E; PackageVersion: revM, Jun-2011; PackageReference: D16; PackageDescription: 16-Pin Plastic Small Outline Integrated Circuit, 9.9 x 3.9 mm, Pitch 1.27 mm Pitch; Eco-Plan: Green (RoHS & no Sb/Br); Function: Crosspoint; Input Signal: CML, LVDS, LVPECL; No. of Tx: 2; Output Signal: LVPECL; Peak-to-Peak Jitter(Max)(ps): 100; Mounting Technology: Surface Mount; Code_JEDEC: MS-012AC; ComponentLink1Description: Datasheet; ComponentLink1URL: http://www.ti.com/general/docs/lit/getliterature.tsp?genericPartNumber=SN65LVCP23&fileType=pdf; ComponentLink2Description: URL Link1; ComponentLink2URL: SamplesURL:http://www.ti.com/product/sn65lvcp23#samples
footprint D16_N (SOIC, 16-Leads, Body 9.9x3.9mm, Pitch 1.27mm, IPC Medium Density)
footprint D16_L (SOIC, 16-Leads, Body 9.9x3.9mm, Pitch 1.27mm, IPC High Density)
footprint D16_M (SOIC, 16-Leads, Body 9.9x3.9mm, Pitch 1.27mm, IPC Low Density)
pins: 1 SEL1 (in), 2 SEL0 (in), 3 IN0+ (in), 4 IN0- (in), 5 VCC (power), 6 IN1+ (in), 7 IN1- (in), 8 VCC (power), 9 GND (power), 10 OUT1- (out), 11 OUT1+ (out), 12 GND (power), 13 OUT0- (out), 14 OUT0+ (out), 15 EN1 (in), 16 EN0 (in)

## SN65LVCP23PW
designator U?
1300 Mbps 2x2 Crosspoint Switch : LVPECL Outputs with CML, LVDS, LVPECL Input, 2 Tx and 2 Rx, -40 to +85 degC, 16-pin TSSOP (PW), Green (RoHS & no Sb/Br); Part-to-Part Skew(Max)(ps): 100; Manufacturer: Texas Instruments; PartNumber: SN65LVCP23PW; Crosspoint-Switch: TRUE; ESD HBM(kV): 5; ICC(Max)(mA): 65; No. of Rx: 2; Signaling Rate(Mbps): 1300; SubFamily: Crosspoint-Switch (>1Gbps); DatasheetVersion: SLLS554E; PackageVersion: revG, Feb-2011; PackageReference: PW16; PackageDescription: 16-Pin Plastic Thin Small Outline Package 5 x 4.4 mm Body ,0.65 mm Pitch; Eco-Plan: Green (RoHS & no Sb/Br); Function: Crosspoint; Input Signal: CML, LVDS, LVPECL; No. of Tx: 2; Output Signal: LVPECL; Peak-to-Peak Jitter(Max)(ps): 100; Mounting Technology: Surface Mount; Code_JEDEC: MO-153; ComponentLink1Description: Datasheet; ComponentLink1URL: http://www.ti.com/general/docs/lit/getliterature.tsp?genericPartNumber=SN65LVCP23&fileType=pdf; ComponentLink2Description: URL Link1; ComponentLink2URL: SamplesURL:http://www.ti.com/product/sn65lvcp23#samples
footprint PW16_N (TSOP, 16-Leads, Body 5x4.4mm, Pitch 0.65mm, IPC Medium Density)
footprint PW16_L (TSOP, 16-Leads, Body 5x4.4mm, Pitch 0.65mm, IPC High Density)
footprint PW16_M (TSOP, 16-Leads, Body 5x4.4mm, Pitch 0.65mm, IPC Low Density)
pins: 1 SEL1 (in), 2 SEL0 (in), 3 IN0+ (in), 4 IN0- (in), 5 VCC (power), 6 IN1+ (in), 7 IN1- (in), 8 VCC (power), 9 GND (power), 10 OUT1- (out), 11 OUT1+ (out), 12 GND (power), 13 OUT0- (out), 14 OUT0+ (out), 15 EN1 (in), 16 EN0 (in)